# Altium footprint library 牛角电容.PcbLib: 1 footprints
Each footprint in its own frame and in the unit in brackets; x right, y up, seen from the top. Pads: shape width x height; smd on the part's side, far side on the other; paste and mask are expansions set on the pad; w line width, h text height; cw(c..) or ccw(c..) is an arc to the next point about the centre after c.
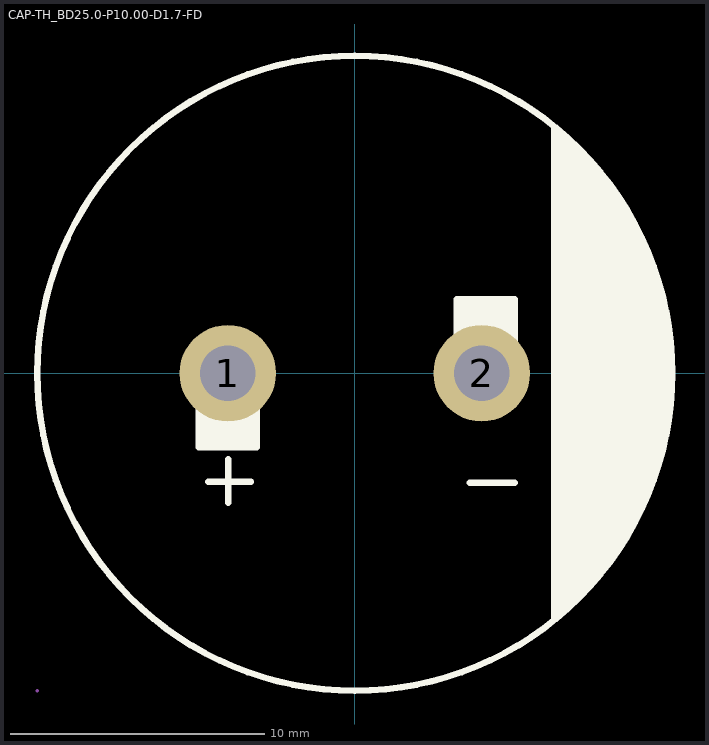
[diagram p0: the footprint, top view; thin cyan lines are the x and y axes]

## CAP-TH_BD25.0-P10.00-D1.7-FD [mm]
pads (2):
  round 3.8 hole 2.2 paste-2539.97 mask+0.05: 1(-5,0) 2(5,0)
Top Overlay:
  circle w0.254: c0,0 r12.5
  region: 7.747,9.779 7.747,-9.779 8.854,-8.672 9.138,-8.388 9.667,-7.784 10.156,-7.147 10.602,-6.48 11.004,-5.784 11.359,-5.064 11.666,-4.322 11.924,-3.562 12.132,-2.786 12.289,-1.999 12.393,-1.203 12.446,-0.401 12.446,0 12.446,0.401 12.393,1.203 12.289,1.999 12.132,2.786 11.924,3.562 11.666,4.322 11.359,5.064 11.004,5.784 10.602,6.48 10.156,7.147 9.667,7.784 9.138,8.388 8.854,8.672 7.874,9.652
  region: 6.303,1.27 4.017,1.27 4.017,2.794 6.303,2.794
  region: -3.984,-2.921 -6.143,-2.921 -6.143,-1.27 -3.984,-1.27
  lines w0.254: -6.143,-1.27 -6.143,-2.921 -3.857,-2.921 -3.857,-1.27 ; -5.762,-4.267 -4.086,-4.267 ; -4.975,-5.105 -4.975,-3.378 ; 4.017,1.27 4.017,2.921 6.303,2.921 6.303,1.27 ; 4.525,-4.318 6.303,-4.318
Mechanical 15:
  region: -12.44,-12.5 -12.441,-12.476 -12.476,-12.441 -12.525,-12.441 -12.56,-12.476 -12.56,-12.5 -12.56,-12.525 -12.525,-12.559 -12.476,-12.559 -12.441,-12.525
  region: 4.8,-0.9 4.8,0.9 5.2,0.9 5.2,-0.9
  region: -5.2,-0.9 -5.2,0.9 -4.8,0.9 -4.8,-0.9
  lines w0.051: -12.5,0 cw(c0,0) 12.5,0 cw(c0,0) -12.5,0
3D body "U2.step": height 30.5, standoff -3.5, extent -12.491,-12.493 12.5,12.509